# Altium footprint library 机载动力寻优.PcbLib: 15 footprints
Each footprint in its own frame and in the unit in brackets; x right, y up, seen from the top. Pads: shape width x height; smd on the part's side, far side on the other; paste and mask are expansions set on the pad; w line width, h text height; cw(c..) or ccw(c..) is an arc to the next point about the centre after c.
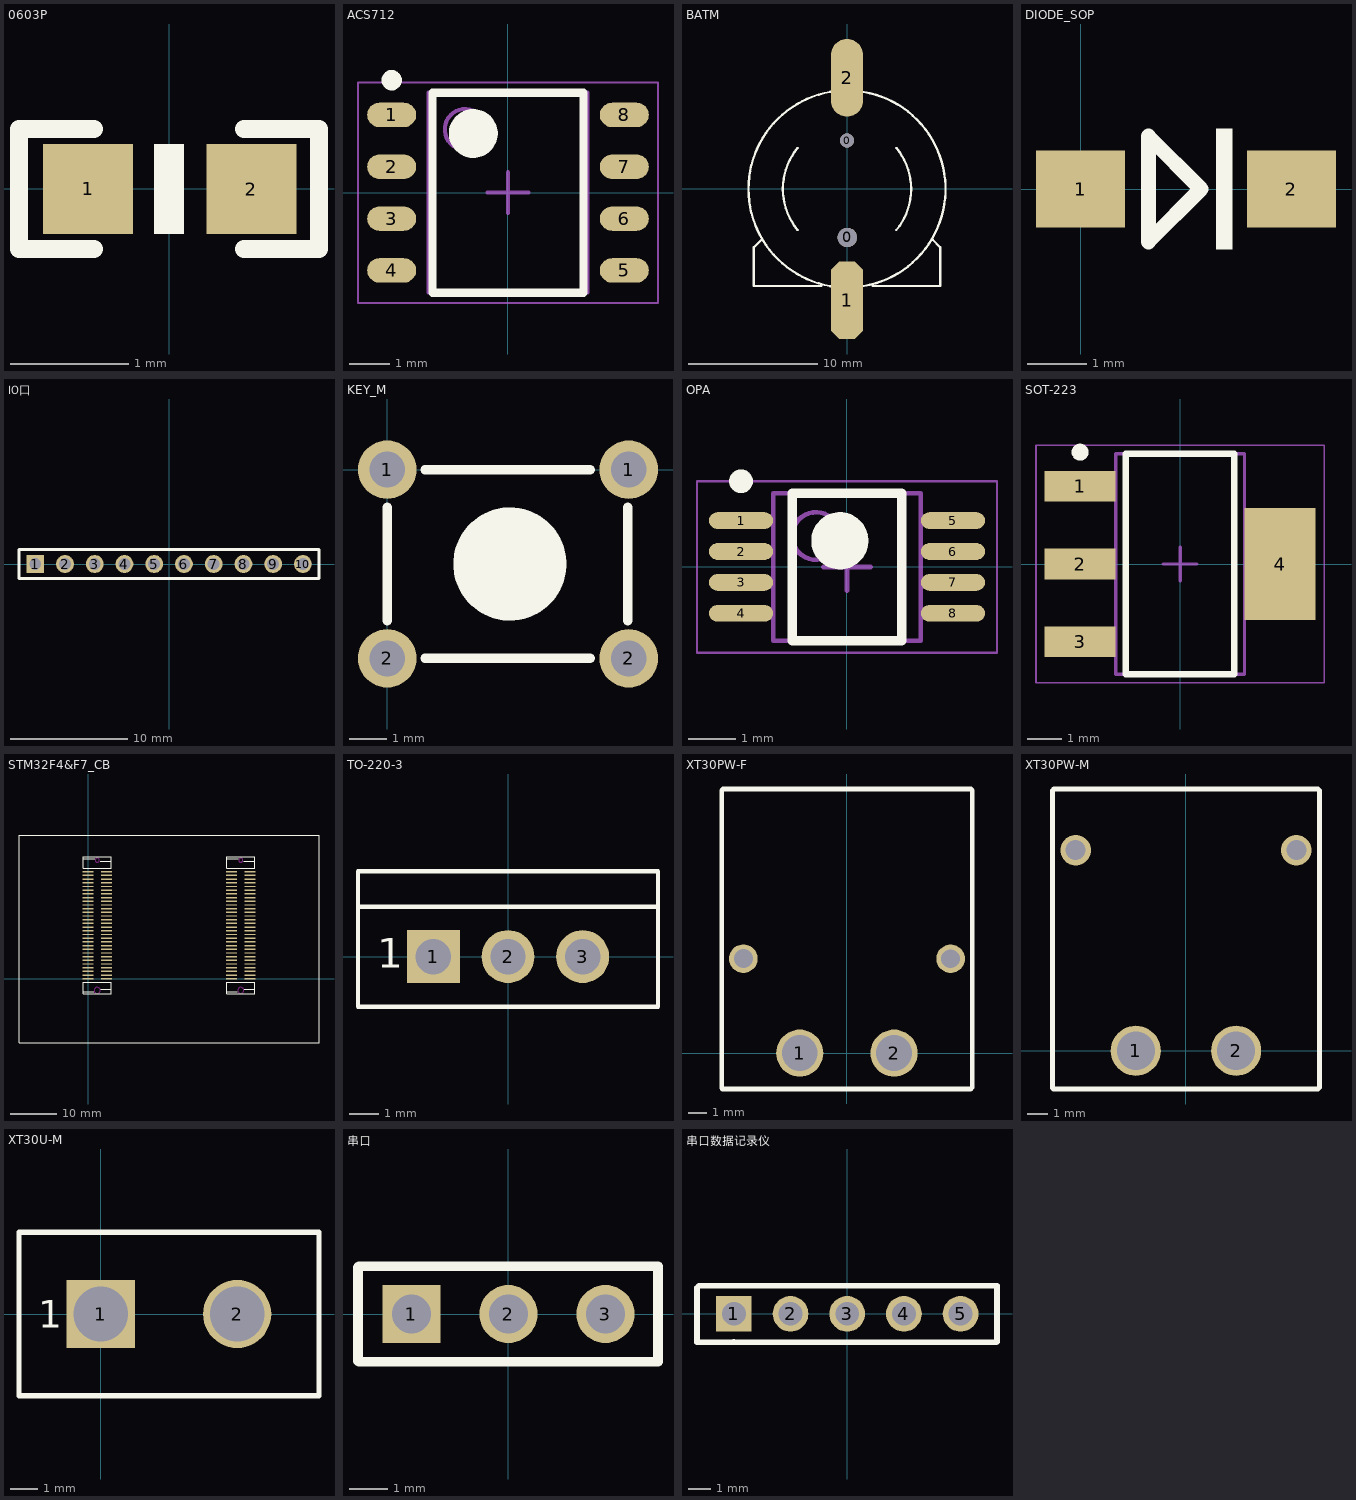
[diagram p0: the footprints below, top view; thin cyan lines are the x and y axes]

## 0603P [mil]
pads (2):
  rect 30x30 smd: 1(-27,0) 2(27.5,-0.06)
Top Overlay:
  region: 5,-15.06 5,14.94 -5,14.94 -5,-15.06
  lines w6: -25,-20.06 -50,-20.06 -50,19.94 -25,19.94 ; 25,-20.06 50,-20.06 50,19.94 25,19.94

## ACS712 [mm] "SOIC, 8-Leads, Body 4.90x3.90mm, Pitch 1.27mm, IPC Medium Density"
height 1.62
pads (8):
  oval 1.2x0.6 smd: 1(-2.85,1.905) 2(-2.85,0.635) 3(-2.85,-0.635) 4(-2.85,-1.905) 5(2.85,-1.905) 6(2.85,-0.635) 7(2.85,0.635) 8(2.85,1.905)
Top Overlay:
  circle w0.6: c-0.85,1.45 r0.3
  circle w0.25: c-2.85,2.755 r0.125
  lines w0.2: -1.85,-2.45 1.85,-2.45 1.85,2.45 -1.85,2.45 -1.85,-2.45
Mechanical 13:
  circle w0.1: c-1.05,1.55 r0.5
  lines w0.1: -1.95,-2.45 1.95,-2.45 1.95,2.45 -1.95,2.45 -1.95,-2.45
Mechanical 15:
  lines w0.05: -3.675,-2.7 3.675,-2.7 3.675,2.7 -3.675,2.7 -3.675,-2.7
  lines w0.1: -0.5,0 0.5,0 ; 0,-0.5 0,0.5
3D body: height 1.62, standoff 0.25, extent -1.95,-2.45 1.95,2.45

## BATM [mm]
pads (4):
  round 1.1 hole 1.1 unplated: 0(0,3.748)
  round 1.5 hole 1.5 unplated: 0(0.025,-3.752)
  oct 2.5x6 smd: 1(0,-8.602)
  oval 2.5x6 smd: 2(0,8.598)
Top Overlay:
  lines w0.178: -6.6,-3.902 -7.2,-4.502 -7.2,-7.502 -2,-7.502 ; -3.815,-3.171 cw(c0,-0.002) -3.812,3.171 ; -0.833,-7.576 cw(c0,-0.002) -7.62,-0.002 cw(c0,-0.002) -0.833,7.573 ; 0.833,-7.576 ccw(c0,-0.002) 0.833,7.573 ; 2,-7.502 7.2,-7.502 7.2,-4.502 6.625,-3.927 ; 3.81,-3.177 ccw(c0,-0.002) 3.812,3.171

## DIODE_SOP [mm]
pads (2):
  rect 1.5x1.3 smd: 1(0,0) 2(3.556,0)
Top Overlay:
  rectangle: 2.286,-1.016 2.559,1.016
  lines w0.254: 1.143,-0.889 2.032,0 1.143,0.889 1.143,-0.889

## IO口 [mil]
pads (10):
  rect 60x60 hole 40.16: 1(-450,0)
  round 60 hole 40.16: 2(-350,0) 3(-250,0) 4(-150,0) 5(-50,0) 6(50,0) 7(150,0) 8(250,0) 9(350,0) 10(450,0)
Top Overlay:
  lines w10: -504.72,0 -504.21,0.51 -504.21,49.21 0,49.21 50,49.21 504.21,49.21 504.21,-49.21 50,-49.21 0,-49.21 -504.21,-49.21 -504.21,-0.51

## KEY_M [mil]
pads (4):
  round 62 hole 38: 1(0,0) 1(255.91,0) 2(0,-200) 2(255.91,-200)
Top Overlay:
  circle w60: c130,-100 r30
  lines w10: -0.03,-160 -0.03,-40 ; 39.97,-200 215,-200 ; 39.97,0 215,0 ; 255,-160 255,-40

## OPA [mm] "TSOP, 8-Leads, Body 3.00x3.00mm, Pitch 0.65mm, IPC Medium Density"
height 1.1
pads (8):
  oval 1.35x0.35 smd: 1(-2.225,0.975) 2(-2.225,0.325) 3(-2.225,-0.325) 4(-2.225,-0.975) 5(2.225,0.975) 6(2.225,0.325) 7(2.225,-0.325) 8(2.225,-0.975)
Top Overlay:
  circle w0.6: c-0.15,0.55 r0.3
  circle w0.25: c-2.225,1.8 r0.125
  lines w0.2: -1.15,-1.55 1.15,-1.55 1.15,1.55 -1.15,1.55 -1.15,-1.55
Mechanical 13:
  circle w0.1: c-0.65,0.65 r0.5
  lines w0.1: -1.55,-1.55 1.55,-1.55 1.55,1.55 -1.55,1.55 -1.55,-1.55
Mechanical 15:
  lines w0.05: -3.15,-1.8 3.15,-1.8 3.15,1.8 -3.15,1.8 -3.15,-1.8
  lines w0.1: -0.5,0 0.5,0 ; 0,-0.5 0,0.5
3D body: height 1.1, standoff 0.05, extent -1.55,-1.55 1.55,1.55

## SOT-223 [mm] "SOT223, 4-Leads, Body 6.20x7.00mm (avg), Pitch 2.30mm, IPC Medium Density"
height 1.8
pads (4):
  rect 2.1x0.9 smd: 1(-2.95,2.3) 2(-2.95,0) 3(-2.95,-2.3)
  rect 2.1x3.3 smd: 4(2.95,0)
Top Overlay:
  circle w0.25: c-2.95,3.3 r0.125
  lines w0.2: -1.6,-3.25 1.6,-3.25 1.6,3.25 -1.6,3.25 -1.6,-3.25
Mechanical 13:
  lines w0.1: -1.9,-3.25 1.9,-3.25 1.9,3.25 -1.9,3.25 -1.9,-3.25
Mechanical 15:
  lines w0.05: -4.25,-3.5 4.25,-3.5 4.25,3.5 -4.25,3.5 -4.25,-3.5
  lines w0.1: -0.5,0 0.5,0 ; 0,-0.5 0,0.5
3D body "SOT230P700X180-4N.step": height 1.8, standoff 0, extent -3.5,-3.25 3.5,3.25

## STM32F4&F7_CB [mm]
pads (120):
  rect 2.3x0.3 smd: J1_1(0,0) J1_2(0,0.8) J1_3(0,1.6) J1_4(0,2.4) J1_5(0,3.2) J1_6(0,4) J1_7(0,4.8) J1_8(0,5.6) J1_9(0,6.4) J1_10(0,7.2) J1_11(0,8) J1_12(0,8.8) J1_13(0,9.6) J1_14(0,10.4) J1_15(0,11.2) J1_16(0,12) J1_17(0,12.8) J1_18(0,13.6) J1_19(0,14.4) J1_20(0,15.2) J1_21(0,16) J1_22(0,16.8) J1_23(0,17.6) J1_24(0,18.4) J1_25(0,19.2) J1_26(0,20) J1_27(0,20.8) J1_28(0,21.6) J1_29(0,22.4) J1_30(0,23.2) J1_31(4,23.2) J1_32(4,22.4) J1_33(4,21.6) J1_34(4,20.8) J1_35(4,20) J1_36(4,19.2) J1_37(4,18.4) J1_38(4,17.6) J1_39(4,16.8) J1_40(4,16) J1_41(4,15.2) J1_42(4,14.4) J1_43(4,13.6) J1_44(4,12.8) J1_45(4,12) J1_46(4,11.2) J1_47(4,10.4) J1_48(4,9.6) J1_49(4,8.8) J1_50(4,8) J1_51(4,7.2) J1_52(4,6.4) J1_53(4,5.6) J1_54(4,4.8) J1_55(4,4) J1_56(4,3.2) J1_57(4,2.4) J1_58(4,1.6) J1_59(4,0.8) J1_60(4,0) J2_1(31.1,0.001) J2_2(31.1,0.801) J2_3(31.1,1.601) J2_4(31.1,2.401) J2_5(31.1,3.201) J2_6(31.1,4.001) J2_7(31.1,4.801) J2_8(31.1,5.601) J2_9(31.1,6.401) J2_10(31.1,7.201) J2_11(31.1,8.001) J2_12(31.1,8.801) J2_13(31.1,9.601) J2_14(31.1,10.401) J2_15(31.1,11.201) J2_16(31.1,12.001) J2_17(31.1,12.801) J2_18(31.1,13.601) J2_19(31.1,14.401) J2_20(31.1,15.201) J2_21(31.1,16.001) J2_22(31.1,16.801) J2_23(31.1,17.601) J2_24(31.1,18.401) J2_25(31.1,19.201) J2_26(31.1,20.001) J2_27(31.1,20.801) J2_28(31.1,21.601) J2_29(31.1,22.401) J2_30(31.1,23.201) J2_31(35.1,23.201) J2_32(35.1,22.401) J2_33(35.1,21.601) J2_34(35.1,20.801) J2_35(35.1,20.001) J2_36(35.1,19.201) J2_37(35.1,18.401) J2_38(35.1,17.601) J2_39(35.1,16.801) J2_40(35.1,16.001) J2_41(35.1,15.201) J2_42(35.1,14.401) J2_43(35.1,13.601) J2_44(35.1,12.801) J2_45(35.1,12.001) J2_46(35.1,11.201) J2_47(35.1,10.401) J2_48(35.1,9.601) J2_49(35.1,8.801) J2_50(35.1,8.001) J2_51(35.1,7.201) J2_52(35.1,6.401) J2_53(35.1,5.601) J2_54(35.1,4.801) J2_55(35.1,4.001) J2_56(35.1,3.201) J2_57(35.1,2.401) J2_58(35.1,1.601) J2_59(35.1,0.801) J2_60(35.1,0.001)
Top Overlay:
  lines w0.152: -1,-2.8 1.2,-2.8 ; -1,-0.775 -1,-3.275 5,-3.275 5,-0.775 -0.975,-0.775 ; -1,26 1.5,26 ; 2.6,25.5 5,25.5 ; 2.8,-2.3 5,-2.3 ; 30.1,-2.799 32.3,-2.799 ; 30.1,-0.774 30.1,-3.274 36.1,-3.274 36.1,-0.774 30.125,-0.774 ; 30.1,26.001 32.6,26.001 ; 33.7,25.501 36.1,25.501 ; 33.9,-2.299 36.1,-2.299 ; -14.95,-13.874 50.05,-13.874 50.05,31.126 -14.95,31.126 -14.95,-13.874 ; -1,23.975 -1,26.475 5,26.475 5,23.975 -1,23.975 ; 30.1,23.976 36.1,23.976 36.1,26.476 30.1,26.476 30.1,23.976
Keep-Out Layer:
  circle w0.152: c33.1,25.701 r0.45
  circle w0.152: c33.1,-2.499 r0.65
  circle w0.152: c2,-2.5 r0.65
  circle w0.152: c2,25.7 r0.45

## TO-220-3 [mm]
pads (3):
  rect 1.8x1.8 hole 1.2: 1(-2.54,0)
  round 1.8 hole 1.2: 2(0,0) 3(2.54,0)
Top Overlay:
  lines w0.15: -5.08,1.7 5.08,1.7 ; -5.1,-1.7 5.1,-1.7 5.1,2.9 -5.1,2.9 -5.1,-1.7
  text "1" at -4.445,-0.381 h1

## XT30PW-F [mm]
pads (4):
  round 2.5 hole 1.9: 1(-2.5,0) 2(2.5,0)
  round 1.524 hole 1: ""(-5.489,5.005) ""(5.5,5)
Top Overlay:
  lines w0.254: -6.639,13.935 -6.639,6.935 -6.639,5.005 -6.639,3.346 -6.639,-1.87 -6.604,-1.905 6.569,-1.905 6.65,-1.824 6.65,3.341 6.65,5 6.65,6.939 6.65,13.939 ; -6.574,14 3.476,14 6.589,14

## XT30PW-M [mm]
pads (4):
  round 2.5 hole 1.9: 1(-2.5,0) 2(2.5,0)
  round 1.524 hole 1: ""(-5.5,10) ""(5.5,10)
Top Overlay:
  lines w0.254: -6.647,-1.862 -6.647,10.006 -6.647,12.032 -6.647,12.976 -6.573,13.05 -5.5,13.05 -3.716,13.05 6.573,13.05 6.65,12.973 6.65,12.026 6.65,10 6.65,-1.824 6.569,-1.905 -6.604,-1.905 -6.647,-1.862

## XT30U-M [mm]
pads (2):
  rect 2.5x2.5 hole 2: 1(0,0)
  round 2.5 hole 2: 2(5,0)
Top Overlay:
  lines w0.2: -3,-3 8,-3 8,3 -3,3 -3,-3
  text "1" at -2.286,-0.508 h1

## 串口 [mil]
pads (3):
  rect 60x60 hole 40.16: 1(-100,0)
  round 60 hole 40.16: 2(0,0) 3(100,0)
Top Overlay:
  lines w10: -155.12,-48.54 -155.12,0 -155.12,48.31 -154.21,49.21 -100,49.21 -55,49.21 154.21,49.21 154.21,-49.21 -55,-49.21 -100,-49.21 -154.45,-49.21 -155.12,-48.54

## 串口数据记录仪 [mm]
pads (5):
  rect 1.6x1.6 hole 1.07: 1(-5.08,0)
  round 1.6 hole 1.07: 2(-2.54,0) 3(0,0) 4(2.54,0) 5(5.08,0)
Top Overlay:
  lines w0.254: -6.711,-1.25 -6.731,-1.27 ; -5.1,-1.27 -6.731,-1.27 ; -5.08,-1.25 -5.06,-1.27 6.691,-1.27 ; 6.711,-1.25 6.711,1.25 -5.08,1.25 -6.643,1.25 -6.731,1.162 -6.731,-1.27